# Altium schematic symbol library SCH - POWER - MODULE - CUI PDSE1-S.SCHLIB: 1 symbol
Pins are listed as number, name and electrical type; pins without a type are passive.

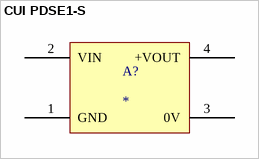
[diagram p0: symbol CUI PDSE1-S]

## CUI PDSE1-S
designator A?
pins: 1 GND, 2 VIN, 3 0V, 4 +VOUT